# EAGLE library part LM2621 (library bschulz)
LM2621 - Low Input Voltage, Step-Up DC-DC Converter Characteristics: Vin: 1.2V ~ 14V Vout: 1.24 ~ 14V Output Current: Up to 1A Quiescent Current: 80μA (typ) Operating Temperature: -40°C to 85°C Digikey: LM2621MMX/NOPBCT-ND <https://www.digikey.com/en/products/detail/texas-instruments/LM2621MMX-NOPB/366854>
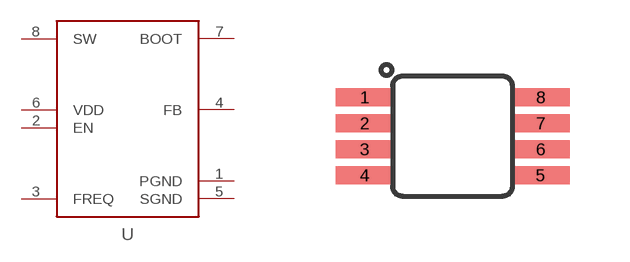
[diagram p162: symbol with the pads of DGK_S-PDSO-G8; footprint DGK_S-PDSO-G8]

Designator prefix U

## LM2621 (DIGIKEY: LM2621MMX/NOPBCT-ND; DISP: LM2621; MF: TI; MPN: LM2621MMX/NOPB)  [DGK_S-PDSO-G8]
1  PGND
2  EN
3  FREQ
4  FB
5  SGND
6  VDD
7  BOOT
8  SW

## Footprint DGK_S-PDSO-G8 (pad centres in mm)
smd 1.45 x 0.45: 1 -2.2,0.975; 2 -2.2,0.325; 3 -2.2,-0.325; 4 -2.2,-0.975; 5 2.2,-0.975; 6 2.2,-0.325; 7 2.2,0.325; 8 2.2,0.975